# Altium footprint library PcbLib1.PcbLib: 1 footprints
Each footprint in its own frame and in the unit in brackets; x right, y up, seen from the top. Pads: shape width x height; smd on the part's side, far side on the other; paste and mask are expansions set on the pad; w line width, h text height; cw(c..) or ccw(c..) is an arc to the next point about the centre after c.
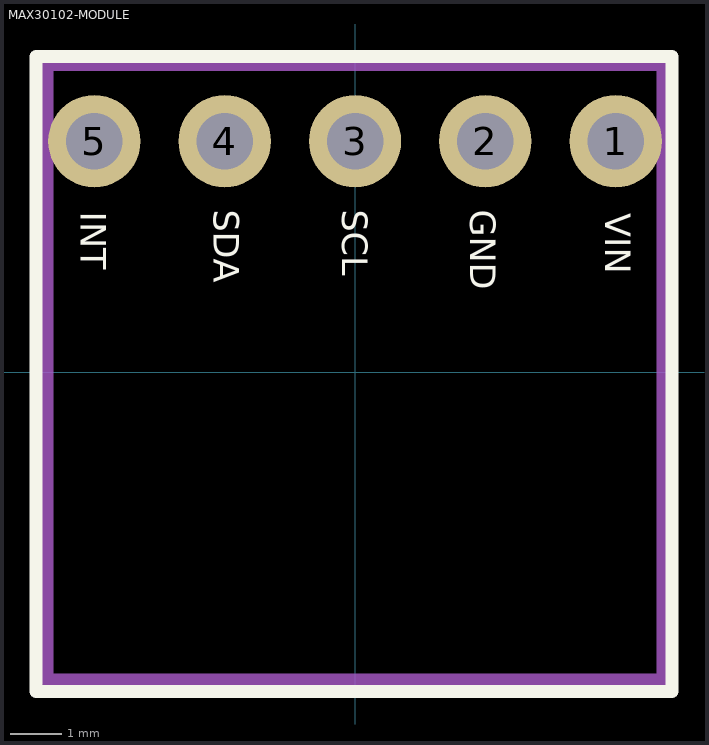
[diagram p0: the footprint, top view; thin cyan lines are the x and y axes]

## MAX30102-MODULE [mm] "MAX30102, Heart Rate Module"
height 2
pads (5):
  round 1.8 hole 1.1: 1(5.08,4.5) 2(2.54,4.5) 3(0,4.5) 4(-2.54,4.5) 5(-5.08,4.5)
Top Overlay:
  lines w0.254: -6.222,-6.222 6.181,-6.222 6.181,6.147 -6.222,6.147 -6.222,-6.222
  text "GND" at 2.25,3.166 h0.5
  text "VIN" at 4.875,3.099 h0.5
  text "SCL" at -0.25,3.166 h0.5
  text "SDA" at -2.75,3.166 h0.5
  text "INT" at -5.35,3.125 h0.5
Mechanical 1:
  lines w0.254: -6,-6 6,-6 6,6 -6,6 -6,-6
3D body "MAX30102.STEP": height 2.11, standoff 0.27, extent -6,-6 6,6